# Altium schematic symbol library ATMEGA128A-AU.SchLib: 1 symbol
Pins are listed as number, name and electrical type; pins without a type are passive.

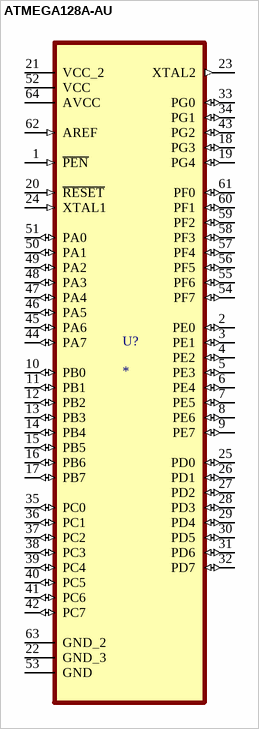
[diagram p0: symbol ATMEGA128A-AU]

## ATMEGA128A-AU
designator U?
Ø¢ÛŒ Ø³ÛŒ Ù…ÛŒÚ©Ø±ÙˆÚ©Ù†ØªØ±Ù„Ø± 8 Ø¨ÛŒØªÛŒØ› Ø®Ø§Ù†ÙˆØ§Ø¯Ù‡ Ú©Ù†ØªØ±Ù„Ø±/Ø³Ø±ÛŒ:AVR MEGA; Ø§Ù†Ø¯Ø§Ø²Ù‡ Ù‡Ø³ØªÙ‡: 8 Ø¨ÛŒØª; ØªØ¹Ø¯Ø§Ø¯ ÙˆØ±ÙˆØ¯ÛŒ/Ø®Ø±ÙˆØ¬ÛŒ Ù‡Ø§:53; Ø­Ø¬Ù… Ø­Ø§ÙØ¸Ù‡ Ø¨Ø±Ù†Ø§Ù…Ù‡:128KB; Ø­Ø¬Ù… Ø­Ø§ÙØ¸Ù‡ EEPROM: 4KB; Ø­Ø§ÙØ¸Ù‡ RAM Ø­Ø¬Ù…: 4KB; Ø³Ø±Ø¹Øª Ù¾Ø±Ø¯Ø§Ø²Ù†Ø¯Ù‡: 16 Ù…Ú¯Ø§Ù‡Ø±ØªØ² Ù†ÙˆØ¹ Ù†ÙˆØ³Ø§Ù†Ú¯Ø±: Ø®Ø§Ø±Ø¬ÛŒØŒ Ø¯Ø§Ø®Ù„ÛŒØ› Ø³Ø§Ø²Ú¯Ø§Ø± Ø¨Ø§ RoHS: Ø¨Ù„Ù‡; MF: Microchip; MP: ATMEGA128A-AU; SnapEDA_Link: https://www.snapeda.com/parts/ATMEGA128A-AU/Microchip/view-part/?ref=snap; Package: TQFP-64 Microchip; Value: *; Check_prices: https://www.snapeda.com/parts/ATMEGA128A-AU/Microchip/view-part/?ref=eda
footprint QFP80P1600X1600X120-64N
pins: 1 ~{PEN} (in), 2 PE0 (io), 3 PE1 (io), 4 PE2 (io), 5 PE3 (io), 6 PE4 (io), 7 PE5 (io), 8 PE6 (io), 9 PE7 (io), 10 PB0 (io), 11 PB1 (io), 12 PB2 (io), 13 PB3 (io), 14 PB4 (io), 15 PB5 (io), 16 PB6 (io), 17 PB7 (io), 18 PG3 (io), 19 PG4 (io), 20 ~{RESET} (in), 21 VCC_2 (power), 22 GND_3, 23 XTAL2 (out), 24 XTAL1 (in), 25 PD0 (io), 26 PD1 (io), 27 PD2 (io), 28 PD3 (io), 29 PD4 (io), 30 PD5 (io), 31 PD6 (io), 32 PD7 (io), 33 PG0 (io), 34 PG1 (io), 35 PC0 (io), 36 PC1 (io), 37 PC2 (io), 38 PC3 (io), 39 PC4 (io), 40 PC5 (io), 41 PC6 (io), 42 PC7 (io), 43 PG2 (io), 44 PA7 (io), 45 PA6 (io), 46 PA5 (io), 47 PA4 (io), 48 PA3 (io), 49 PA2 (io), 50 PA1 (io), 51 PA0 (io), 52 VCC (power), 53 GND, 54 PF7 (io), 55 PF6 (io), 56 PF5 (io), 57 PF4 (io), 58 PF3 (io), 59 PF2 (io), 60 PF1 (io), 61 PF0 (io), 62 AREF (in), 63 GND_2, 64 AVCC (power)